# Altium integrated library LARS_409_DC-DC.Library.IntLib: 26 symbols
Pins are listed as number, name and electrical type; pins without a type are passive.

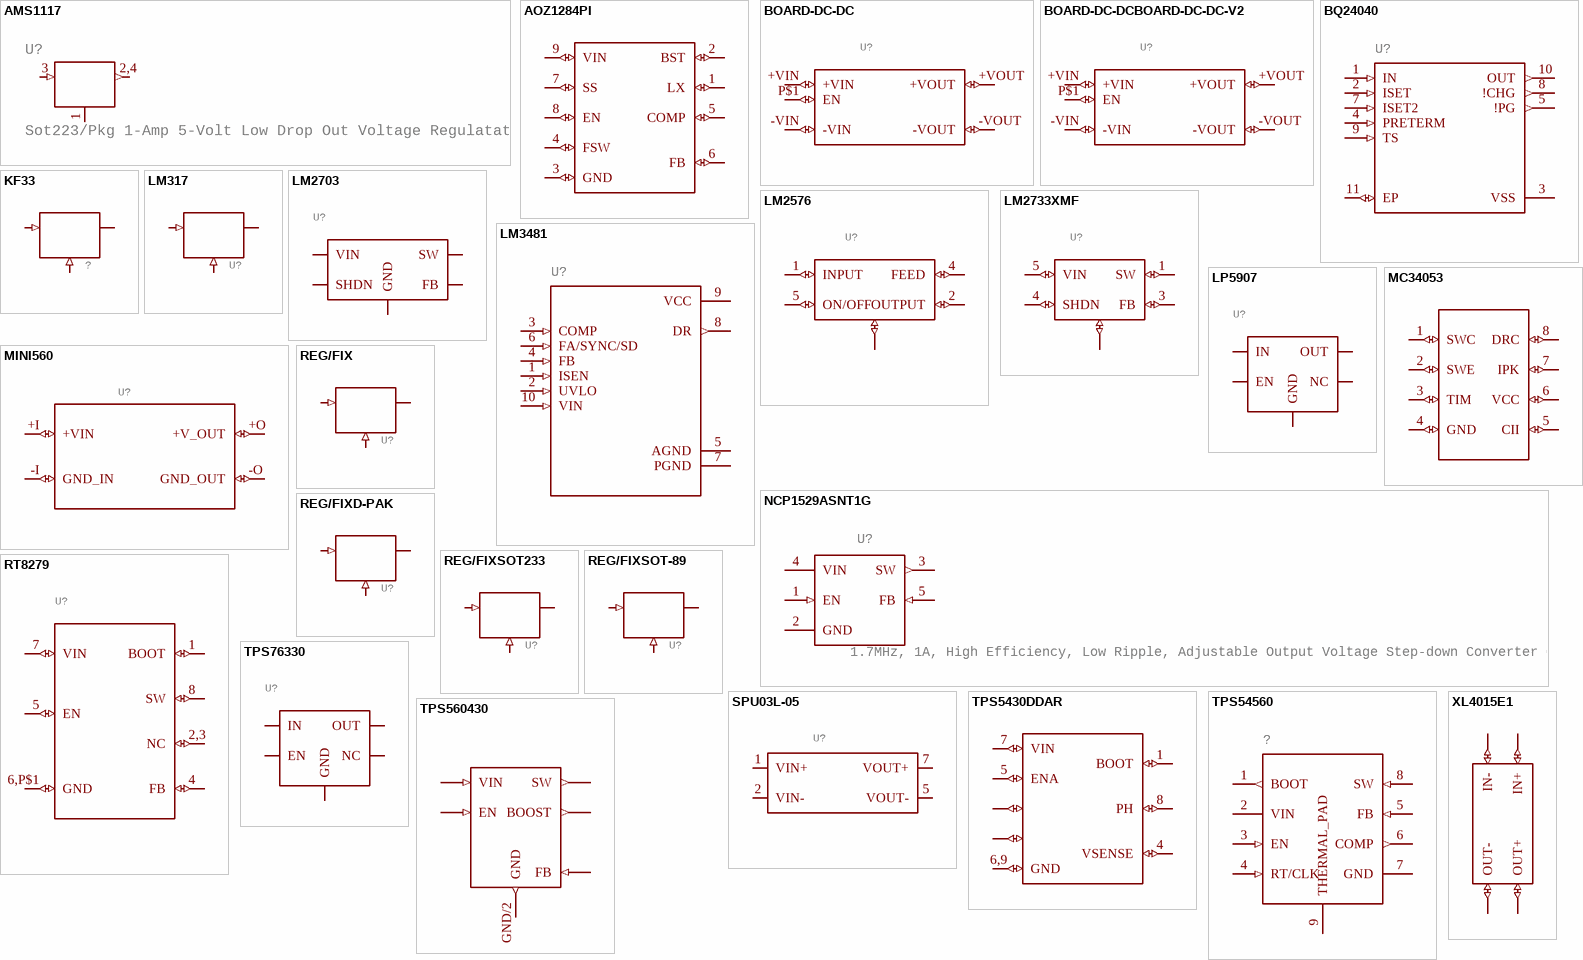
[diagram p0: symbols AMS1117 to XL4015E1]

## AMS1117
designator U?, comment Sot223/Pkg 1-Amp 5-Volt Low Drop Out Voltage Regulatator
GateName_1: G$1; SymbolName_1: AMS1117; LibraryName: LARS_409_DC-DC; DeviceSetName: AMS1117; Package: SOT233
footprint SOT233
pins: 1 ADJ/GND (power), 2,4 VOUT (out), 3 VIN (in)

## AOZ1284PI
designator U?
GateName_1: G$1; SymbolName_1: AOZ1284; DeviceSetName: AOZ1284PI; LibraryName: LARS_409_DC-DC; Package: HSOIC(8)
footprint HSOIC(8)
pins: 1 LX (io), 2 BST (io), 3 GND (io), 4 FSW (io), 5 COMP (io), 6 FB (io), 7 SS (io), 8 EN (io), 9 VIN (io)

## BOARD-DC-DC
designator U?
GateName_1: G$1; SymbolName_1: BOARD-DC-DC; LibraryName: LARS_409_DC-DC; DeviceSetName: BOARD-DC-DC; Package: BOARD-DC-DC
footprint BOARD-DC-DC
pins: +VIN (io), +VOUT (io), -VIN (io), -VOUT (io), P$1 EN (io)

## BOARD-DC-DCBOARD-DC-DC-V2
designator U?
GateName_1: G$1; SymbolName_1: BOARD-DC-DC; DeviceName: BOARD-DC-DC-V2; LibraryName: LARS_409_DC-DC; DeviceSetName: BOARD-DC-DC; Package: BOARD-DC-DC_V2
footprint BOARD-DC-DC_V2
pins: +VIN (io), +VOUT (io), -VIN (io), -VOUT (io), P$1 EN (io)

## BQ24040
designator U?
GateName_1: G$1; SymbolName_1: BQ24040; LibraryName: LARS_409_DC-DC; DeviceSetName: BQ24040; Package: WSON(10)
footprint WSON(10)
pins: 1 IN (in), 2 ISET (in), 3 VSS (power), 4 PRETERM (in), 5 !PG (out), 7 ISET2 (in), 8 !CHG (out), 9 TS (in), 10 OUT (out), 11 EP (io)

## KF33
designator ?
GateName_1: G$1; SymbolName_1: REG/FIX; DeviceSetName: KF33; LibraryName: LARS_409_DC-DC; Package: D-PAK
footprint D-PAK
pins: 1 IN (in), 3 OUT, 4 ADJ/GND (in)

## LM317
designator U?
GateName_1: G$1; SymbolName_1: REG/FIX; DeviceSetName: LM317; LibraryName: LARS_409_DC-DC; Package: D-PAK
footprint D-PAK
pins: 1 ADJ/GND (in), 3 IN (in), 4 OUT

## LM2576
designator U?
GateName_1: G$1; SymbolName_1: LM2576; LibraryName: LARS_409_DC-DC; DeviceSetName: LM2576; Package: TO-263-5
footprint TO-263-5
pins: 1 INPUT (io), 2 OUTPUT (io), 3,6 GND (io), 4 FEED (io), 5 ON/OFF (io)

## LM2703
designator U?
GateName_1: G$1; SymbolName_1: LM2703; LibraryName: LARS_409_DC-DC; DeviceSetName: LM2703; Package: SOT-23-5
footprint SOT-23-5
pins: 1 SW (io), 2 GND (io), 3 FB (io), 4 SHDN (io), 5 VIN (io)

## LM2733XMF
designator U?
GateName_1: G$1; SymbolName_1: LM2733; DeviceSetName: LM2733XMF; LibraryName: LARS_409_DC-DC; Package: SOT-23-5
footprint SOT-23-5
pins: 1 SW (io), 2 GND (io), 3 FB (io), 4 SHDN (io), 5 VIN (io)

## LM3481
designator U?
GateName_1: G$1; SymbolName_1: LM3481; LibraryName: LARS_409_DC-DC; DeviceSetName: LM3481; Package: VSSOP(10)
footprint VSSOP(10)
pins: 1 ISEN (in), 2 UVLO (in), 3 COMP (in), 4 FB (in), 5 AGND (power), 6 FA/SYNC/SD (in), 7 PGND (power), 8 DR (out), 9 VCC (power), 10 VIN (in)

## LP5907
designator U?
GateName_1: G$1; SymbolName_1: TPS76330; DeviceSetName: LP5907; LibraryName: LARS_409_DC-DC; Package: SOT-23-5
footprint SOT-23-5
pins: 1 IN (io), 2 GND (io), 3 EN (io), 4 NC (io), 5 OUT (io)

## MC34053
designator U?
GateName_1: G$1; SymbolName_1: MC34063; DeviceSetName: MC34053; LibraryName: LARS_409_DC-DC; Package: SOIC127P600X175-8N
footprint SOIC127P600X175-8N
pins: 1 SWC (io), 2 SWE (io), 3 TIM (io), 4 GND (io), 5 CII (io), 6 VCC (io), 7 IPK (io), 8 DRC (io)

## MINI560
designator U?
GateName_1: G$1; SymbolName_1: MINI560; LibraryName: LARS_409_DC-DC; DeviceSetName: MINI560; Package: MINI560_OTB
footprint MINI560_OTB
pins: +I +VIN (io), +O +V_OUT (io), -I GND_IN (io), -O GND_OUT (io)

## NCP1529ASNT1G
designator U?, comment 1.7MHz, 1A, High Efficiency, Low Ripple, Adjustable Output Voltage Step-down Converter Check prices
GateName_1: A; SymbolName_1: NCP1529ASNT1G; LibraryName: LARS_409_DC-DC; DeviceSetName: NCP1529ASNT1G; Package: SOT-23-5
footprint SOT-23-5
pins: 1 EN (in), 2 GND, 3 SW (out), 4 VIN (power), 5 FB (in)

## REG/FIX
designator U?
GateName_1: G$1; SymbolName_1: REG/FIX; LibraryName: LARS_409_DC-DC; DeviceSetName: REG/FIX; Package: SOT23
footprint SOT23
pins: 1 IN (in), 2 OUT, 3 ADJ/GND (in)

## REG/FIXD-PAK
designator U?
GateName_1: G$1; SymbolName_1: REG/FIX; DeviceName: D-PAK; LibraryName: LARS_409_DC-DC; DeviceSetName: REG/FIX; Package: D-PAK
footprint D-PAK
pins: 1 ADJ/GND (in), 3 IN (in), 4 OUT

## REG/FIXSOT233
designator U?
GateName_1: G$1; SymbolName_1: REG/FIX; DeviceName: SOT233; LibraryName: LARS_409_DC-DC; DeviceSetName: REG/FIX; Package: SOT233
footprint SOT233
pins: 1 ADJ/GND (in), 2,4 OUT, 3 IN (in)

## REG/FIXSOT-89
designator U?
GateName_1: G$1; SymbolName_1: REG/FIX; DeviceName: SOT-89; LibraryName: LARS_409_DC-DC; DeviceSetName: REG/FIX; Package: SOT-89
footprint SOT-89
pins: 1 OUT, 2 ADJ/GND (in), 3 IN (in)

## RT8279
designator U?
GateName_1: G$1; SymbolName_1: RT8279; LibraryName: LARS_409_DC-DC; DeviceSetName: RT8279; Package: SOIC127P599X155-8N
footprint SOIC127P599X155-8N
pins: 1 BOOT (io), 2,3 NC (io), 4 FB (io), 5 EN (io), 6,P$1 GND (io), 7 VIN (io), 8 SW (io)

## SPU03L-05
designator U?
GateName_1: G$1; SymbolName_1: SPU03L-05; LibraryName: LARS_409_DC-DC; DeviceSetName: SPU03L-05; Package: SPU03L-05
footprint SPU03L-05
pins: 1 VIN+ (io), 2 VIN- (io), 5 VOUT- (io), 7 VOUT+ (io)

## TPS5430DDAR
designator U?
GateName_1: G$1; SymbolName_1: TPS543X; DeviceSetName: TPS5430DDAR; LibraryName: LARS_409_DC-DC; Package: HSOIC(8)
footprint HSOIC(8)
pins: 1 BOOT (io), 2 NOCONNECT (io), 3 NOCONNECT1 (io), 4 VSENSE (io), 5 ENA (io), 6,9 GND (io), 7 VIN (io), 8 PH (io)

## TPS54560
designator ?
GateName_1: G$1; SymbolName_1: TPS54560B; DeviceSetName: TPS54560; LibraryName: LARS_409_DC-DC; Package: HSOIC(8)
footprint HSOIC(8)
pins: 1 BOOT (out), 2 VIN (power), 3 EN (in), 4 RT/CLK (in), 5 FB (in), 6 COMP (out), 7 GND (power), 8 SW (in), 9 THERMAL_PAD (power)

## TPS76330
designator U?
GateName_1: G$1; SymbolName_1: TPS76330; LibraryName: LARS_409_DC-DC; DeviceSetName: TPS76330; Package: SOT-23-5
footprint SOT-23-5
pins: 1 IN (io), 2 GND (io), 3 EN (io), 4 NC (io), 5 OUT (io)

## TPS560430
designator U?
GateName_1: G$1; SymbolName_1: TPS560430; LibraryName: LARS_409_DC-DC; DeviceSetName: TPS560430; Package: SOT-23-6
footprint SOT-23-6
pins: BOOST/1 BOOST (out), EN/4 EN (in), FB/3 FB (in), GND/2 GND (out), IN/5 VIN (in), SW/6 SW (out)

## XL4015E1
designator U?
GateName_1: G$1; SymbolName_1: XL4015E1; LibraryName: LARS_409_DC-DC; DeviceSetName: XL4015E1; Package: XL4015E1
footprint XL4015E1
pins: IN+ (io), IN- (io), OUT+ (io), OUT- (io)